# Altium footprint library Base strip-MC.PcbLib: 1 footprints
Each footprint in its own frame and in the unit in brackets; x right, y up, seen from the top. Pads: shape width x height; smd on the part's side, far side on the other; paste and mask are expansions set on the pad; w line width, h text height; cw(c..) or ccw(c..) is an arc to the next point about the centre after c.
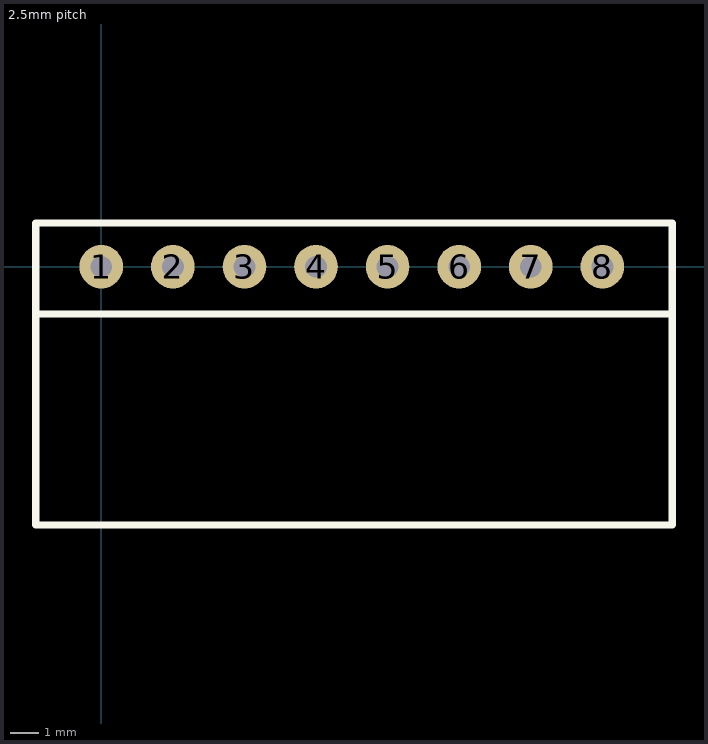
[diagram p0: the footprint, top view; thin cyan lines are the x and y axes]

## 2.5mm pitch [mil]
pads (8):
  round 60 hole 30: 1(0,0) 2(98.43,0) 3(196.85,0) 4(295.28,0) 5(393.7,0) 6(492.13,0) 7(590.55,0) 8(688.98,0)
Top Overlay:
  lines w10: -90,-65 785,-65 ; -90,-355 -90,60 785,60 785,-355 -90,-355
3D body: height 10, standoff 0, extent 365,225 365,225